# EAGLE library part LTC3531 (library howell)
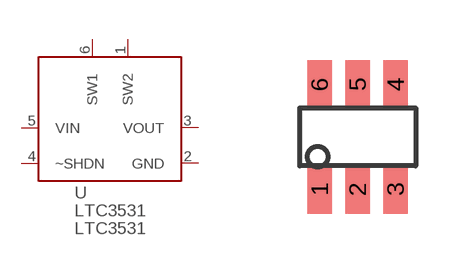
[diagram p2: symbol with the pads of 6PIN-TSOT23; footprint 6PIN-TSOT23]

Designator prefix -

## LTC3531  [6PIN-TSOT23]
1  SW2
2  GND
3  VOUT
4  ~SHDN
5  VIN
6  SW1

## Footprint 6PIN-TSOT23 (pad centres in mm)
smd 0.62 x 1.22: 1 -0.95,-1.31; 2 0,-1.31; 3 0.95,-1.31; 4 0.95,1.31; 5 0,1.31; 6 -0.95,1.31